# Altium integrated library Linear Technology Operational Amplifiers (LT2000-LT6000).IntLib: 1710 symbols (part 40 of 75)
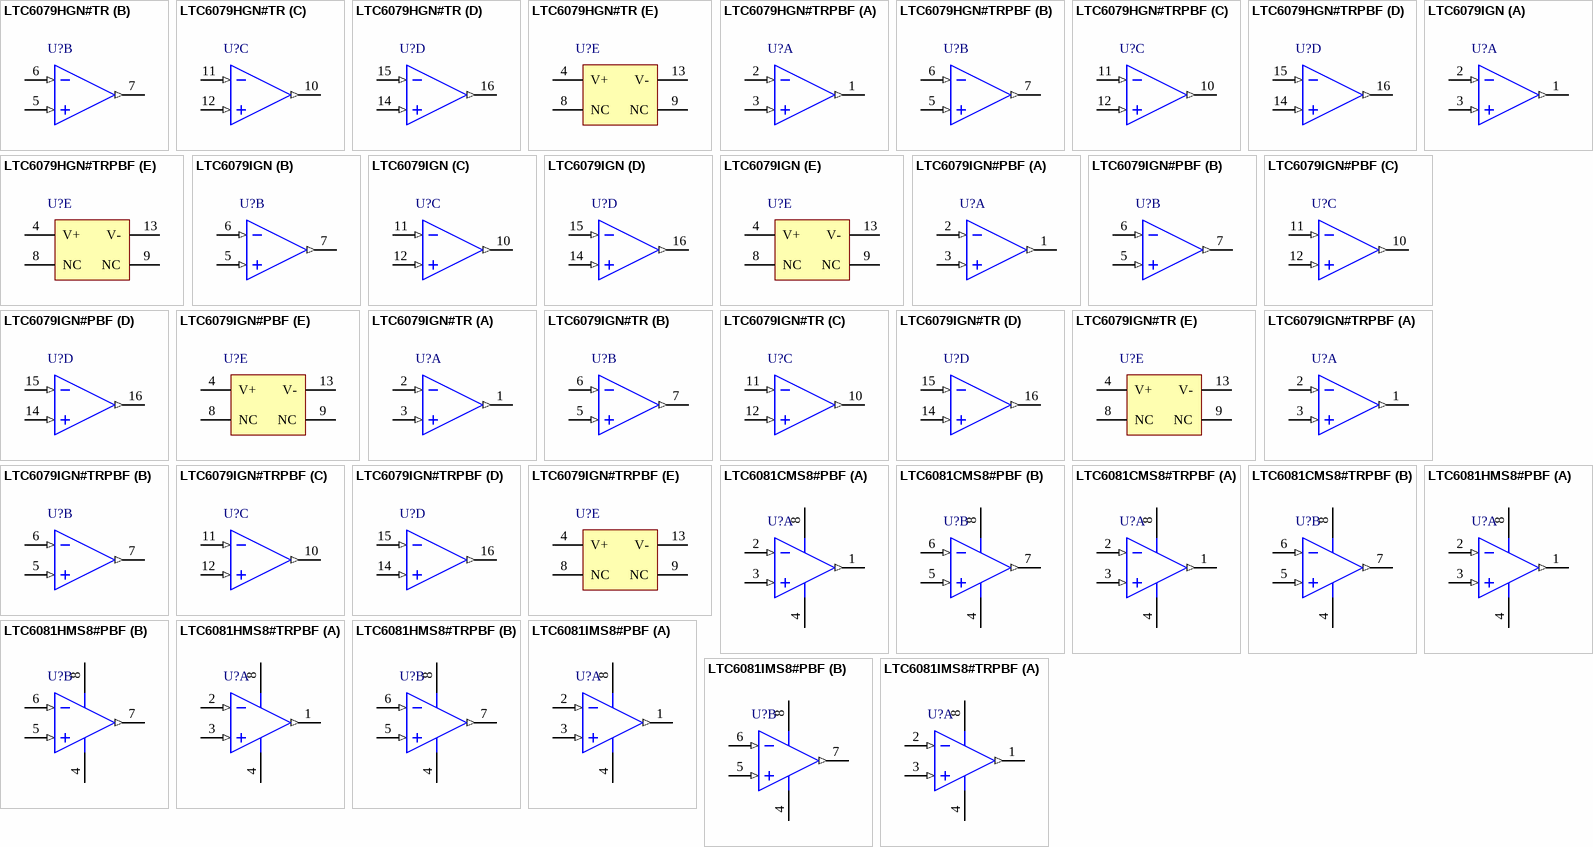
[diagram p119: symbols LTC6079HGN#TR to LTC6081IMS8#TRPBF]

## LTC6079HGN#TRPBF
designator U?
Quad Channel, Micropower, Precision Operational Amplifier, RRIO, 0.75 MHz Typical GBW, 0.05 V/us Typical SR, 2.7 to 5.5 V, 16-Pin SOP (GN-16), High Temperature / Automotive, Pb-Free, Reel; Linear Technology Part Number: LTC6079; Manufacturer: Linear Technology; PartNumber: LTC6079HGN#TRPBF; Channels (#): 4; GBW (MHz) Typical: 0.75; Is (mA) Typical: 0.054; SR (V/us) Typical: 0.05; Vos (mV) Typical: 0.007; Vs Max (V): 5.5; Vs Min (V): 2.7; DatasheetVersion: Rev. A; PackageVersion: Rev B; PackageReference: LT-GN-16; PackageDescription: 16-Lead Plastic SSOP, Body 4.9 x 3.9 mm, Pitch 0.635 mm; Supplier 1: Digi-Key; Supplier Part Number 1: LTC6079HGN#TRPBF-ND; Packing: Reel; RoHS: Pb-Free; Type: VFB; Mounting Technology: Surface Mount; ComponentLink1Description: Manufacturer URL; ComponentLink1URL: http://www.linear.com/; ComponentLink2Description: Datasheet; ComponentLink2URL: http://cds.linear.com/docs/en/datasheet/60789fa.pdf; ComponentLink3Description: Package Specification; ComponentLink3URL: http://cds.linear.com/docs/en/packaging/05081641_B_GN16.pdf
footprint LT-GN-16_N (SOP, 16-Leads, Body 4.9x3.9mm, Pitch 0.635mm, IPC Medium Density)
footprint LT-GN-16_L (SOP, 16-Leads, Body 4.9x3.9mm, Pitch 0.635mm, IPC High Density)
footprint LT-GN-16_M (SOP, 16-Leads, Body 4.9x3.9mm, Pitch 0.635mm, IPC Low Density)
part A pins: 1 OUT A (out), 2 IN- A (in), 3 IN+ A (in)
part B pins: 5 IN+ B (in), 6 IN- B (in), 7 OUT B (out)
part C pins: 10 OUT C (out), 11 IN- C (in), 12 IN+ C (in)
part D pins: 14 IN+ D (in), 15 IN- D (in), 16 OUT D (out)
part E pins: 4 V+ (power), 8 NC, 9 NC, 13 V- (power)

## LTC6079IGN
designator U?
Quad Channel, Micropower, Precision Operational Amplifier, RRIO, 0.75 MHz Typical GBW, 0.05 V/us Typical SR, 2.7 to 5.5 V, 16-Pin SOP (GN-16), Industrial; Linear Technology Part Number: LTC6079; Manufacturer: Linear Technology; PartNumber: LTC6079IGN; Channels (#): 4; GBW (MHz) Typical: 0.75; Is (mA) Typical: 0.054; SR (V/us) Typical: 0.05; Vos (mV) Typical: 0.007; Vs Max (V): 5.5; Vs Min (V): 2.7; DatasheetVersion: Rev. A; PackageVersion: Rev B; PackageReference: LT-GN-16; PackageDescription: 16-Lead Plastic SSOP, Body 4.9 x 3.9 mm, Pitch 0.635 mm; Supplier 1: Digi-Key; Supplier Part Number 1: LTC6079IGN-ND; Supplier 2: Newark; Supplier Part Number 2: 56M9778; Type: VFB; Mounting Technology: Surface Mount; ComponentLink1Description: Manufacturer URL; ComponentLink1URL: http://www.linear.com/; ComponentLink2Description: Datasheet; ComponentLink2URL: http://cds.linear.com/docs/en/datasheet/60789fa.pdf; ComponentLink3Description: Package Specification; ComponentLink3URL: http://cds.linear.com/docs/en/packaging/05081641_B_GN16.pdf
footprint LT-GN-16_N (SOP, 16-Leads, Body 4.9x3.9mm, Pitch 0.635mm, IPC Medium Density)
footprint LT-GN-16_L (SOP, 16-Leads, Body 4.9x3.9mm, Pitch 0.635mm, IPC High Density)
footprint LT-GN-16_M (SOP, 16-Leads, Body 4.9x3.9mm, Pitch 0.635mm, IPC Low Density)
part A pins: 1 OUT A (out), 2 IN- A (in), 3 IN+ A (in)
part B pins: 5 IN+ B (in), 6 IN- B (in), 7 OUT B (out)
part C pins: 10 OUT C (out), 11 IN- C (in), 12 IN+ C (in)
part D pins: 14 IN+ D (in), 15 IN- D (in), 16 OUT D (out)
part E pins: 4 V+ (power), 8 NC, 9 NC, 13 V- (power)

## LTC6079IGN#PBF
designator U?
Quad Channel, Micropower, Precision Operational Amplifier, RRIO, 0.75 MHz Typical GBW, 0.05 V/us Typical SR, 2.7 to 5.5 V, 16-Pin SOP (GN-16), Industrial, Pb-Free; Linear Technology Part Number: LTC6079; Manufacturer: Linear Technology; PartNumber: LTC6079IGN#PBF; Channels (#): 4; GBW (MHz) Typical: 0.75; Is (mA) Typical: 0.054; SR (V/us) Typical: 0.05; Vos (mV) Typical: 0.007; Vs Max (V): 5.5; Vs Min (V): 2.7; DatasheetVersion: Rev. A; PackageVersion: Rev B; PackageReference: LT-GN-16; PackageDescription: 16-Lead Plastic SSOP, Body 4.9 x 3.9 mm, Pitch 0.635 mm; Supplier 1: Digi-Key; Supplier Part Number 1: LTC6079IGN#PBF-ND; Supplier 2: Farnell; Supplier Part Number 2: 1663745; Supplier 3: Newark; Supplier Part Number 3: 56M9779; RoHS: Pb-Free; Type: VFB; Mounting Technology: Surface Mount; ComponentLink1Description: Manufacturer URL; ComponentLink1URL: http://www.linear.com/; ComponentLink2Description: Datasheet; ComponentLink2URL: http://cds.linear.com/docs/en/datasheet/60789fa.pdf; ComponentLink3Description: Package Specification; ComponentLink3URL: http://cds.linear.com/docs/en/packaging/05081641_B_GN16.pdf
footprint LT-GN-16_N (SOP, 16-Leads, Body 4.9x3.9mm, Pitch 0.635mm, IPC Medium Density)
footprint LT-GN-16_L (SOP, 16-Leads, Body 4.9x3.9mm, Pitch 0.635mm, IPC High Density)
footprint LT-GN-16_M (SOP, 16-Leads, Body 4.9x3.9mm, Pitch 0.635mm, IPC Low Density)
part A pins: 1 OUT A (out), 2 IN- A (in), 3 IN+ A (in)
part B pins: 5 IN+ B (in), 6 IN- B (in), 7 OUT B (out)
part C pins: 10 OUT C (out), 11 IN- C (in), 12 IN+ C (in)
part D pins: 14 IN+ D (in), 15 IN- D (in), 16 OUT D (out)
part E pins: 4 V+ (power), 8 NC, 9 NC, 13 V- (power)

## LTC6079IGN#TR
designator U?
Quad Channel, Micropower, Precision Operational Amplifier, RRIO, 0.75 MHz Typical GBW, 0.05 V/us Typical SR, 2.7 to 5.5 V, 16-Pin SOP (GN-16), Industrial, Reel; Linear Technology Part Number: LTC6079; Manufacturer: Linear Technology; PartNumber: LTC6079IGN#TR; Channels (#): 4; GBW (MHz) Typical: 0.75; Is (mA) Typical: 0.054; SR (V/us) Typical: 0.05; Vos (mV) Typical: 0.007; Vs Max (V): 5.5; Vs Min (V): 2.7; DatasheetVersion: Rev. A; PackageVersion: Rev B; PackageReference: LT-GN-16; PackageDescription: 16-Lead Plastic SSOP, Body 4.9 x 3.9 mm, Pitch 0.635 mm; Supplier 1: Digi-Key; Supplier Part Number 1: LTC6079IGN#TR-ND; Supplier 2: Newark; Supplier Part Number 2: 56M9780; Packing: Reel; Type: VFB; Mounting Technology: Surface Mount; ComponentLink1Description: Manufacturer URL; ComponentLink1URL: http://www.linear.com/; ComponentLink2Description: Datasheet; ComponentLink2URL: http://cds.linear.com/docs/en/datasheet/60789fa.pdf; ComponentLink3Description: Package Specification; ComponentLink3URL: http://cds.linear.com/docs/en/packaging/05081641_B_GN16.pdf
footprint LT-GN-16_N (SOP, 16-Leads, Body 4.9x3.9mm, Pitch 0.635mm, IPC Medium Density)
footprint LT-GN-16_L (SOP, 16-Leads, Body 4.9x3.9mm, Pitch 0.635mm, IPC High Density)
footprint LT-GN-16_M (SOP, 16-Leads, Body 4.9x3.9mm, Pitch 0.635mm, IPC Low Density)
part A pins: 1 OUT A (out), 2 IN- A (in), 3 IN+ A (in)
part B pins: 5 IN+ B (in), 6 IN- B (in), 7 OUT B (out)
part C pins: 10 OUT C (out), 11 IN- C (in), 12 IN+ C (in)
part D pins: 14 IN+ D (in), 15 IN- D (in), 16 OUT D (out)
part E pins: 4 V+ (power), 8 NC, 9 NC, 13 V- (power)

## LTC6079IGN#TRPBF
designator U?
Quad Channel, Micropower, Precision Operational Amplifier, RRIO, 0.75 MHz Typical GBW, 0.05 V/us Typical SR, 2.7 to 5.5 V, 16-Pin SOP (GN-16), Industrial, Pb-Free, Reel; Linear Technology Part Number: LTC6079; Manufacturer: Linear Technology; PartNumber: LTC6079IGN#TRPBF; Channels (#): 4; GBW (MHz) Typical: 0.75; Is (mA) Typical: 0.054; SR (V/us) Typical: 0.05; Vos (mV) Typical: 0.007; Vs Max (V): 5.5; Vs Min (V): 2.7; DatasheetVersion: Rev. A; PackageVersion: Rev B; PackageReference: LT-GN-16; PackageDescription: 16-Lead Plastic SSOP, Body 4.9 x 3.9 mm, Pitch 0.635 mm; Supplier 1: Digi-Key; Supplier Part Number 1: LTC6079IGN#TRPBF-ND; Supplier 2: Newark; Supplier Part Number 2: 56M9781; Packing: Reel; RoHS: Pb-Free; Type: VFB; Mounting Technology: Surface Mount; ComponentLink1Description: Manufacturer URL; ComponentLink1URL: http://www.linear.com/; ComponentLink2Description: Datasheet; ComponentLink2URL: http://cds.linear.com/docs/en/datasheet/60789fa.pdf; ComponentLink3Description: Package Specification; ComponentLink3URL: http://cds.linear.com/docs/en/packaging/05081641_B_GN16.pdf
footprint LT-GN-16_N (SOP, 16-Leads, Body 4.9x3.9mm, Pitch 0.635mm, IPC Medium Density)
footprint LT-GN-16_L (SOP, 16-Leads, Body 4.9x3.9mm, Pitch 0.635mm, IPC High Density)
footprint LT-GN-16_M (SOP, 16-Leads, Body 4.9x3.9mm, Pitch 0.635mm, IPC Low Density)
part A pins: 1 OUT A (out), 2 IN- A (in), 3 IN+ A (in)
part B pins: 5 IN+ B (in), 6 IN- B (in), 7 OUT B (out)
part C pins: 10 OUT C (out), 11 IN- C (in), 12 IN+ C (in)
part D pins: 14 IN+ D (in), 15 IN- D (in), 16 OUT D (out)
part E pins: 4 V+ (power), 8 NC, 9 NC, 13 V- (power)

## LTC6081CMS8#PBF
designator U?
Dual Channel, Precision CMOS Operational Amplifier, RRIO, 3.6 MHz Typical GBW, 1 V/us Typical SR, 2.7 to 5.5 V, 8-Pin SOP (MS8-8), Commercial, Pb-Free; Linear Technology Part Number: LTC6081; Manufacturer: Linear Technology; PartNumber: LTC6081CMS8#PBF; Channels (#): 2; GBW (MHz) Typical: 3.6; Is (mA) Typical: 0.33; SR (V/us) Typical: 1; Vos (mV) Typical: 0.07; Vs Max (V): 5.5; Vs Min (V): 2.7; DatasheetVersion: Rev. C; PackageVersion: Rev G; PackageReference: LT-MS8-8; PackageDescription: 8-Lead Plastic Small Outline, Body 3.9 x 4.9 mm, Pitch 1.27 mm; Supplier 1: Digi-Key; Supplier Part Number 1: LTC6081CMS8#PBF-ND; Supplier 2: Farnell; Supplier Part Number 2: 1432784; Supplier 3: Newark; Supplier Part Number 3: 56M9784; RoHS: Pb-Free; Type: VFB; Mounting Technology: Surface Mount; ComponentLink1Description: Manufacturer URL; ComponentLink1URL: http://www.linear.com/; ComponentLink2Description: Datasheet; ComponentLink2URL: http://cds.linear.com/docs/en/datasheet/60812fc.pdf; ComponentLink3Description: Package Specification; ComponentLink3URL: http://cds.linear.com/docs/en/packaging/05081610_G_SO8.pdf
footprint LT-MS8-8_N (SOP, 8-Leads, Body 3x3mm, Pitch 0.65mm, IPC Medium Density)
footprint LT-MS8-8_L (SOP, 8-Leads, Body 3x3mm, Pitch 0.65mm, IPC High Density)
footprint LT-MS8-8_M (SOP, 8-Leads, Body 3x3mm, Pitch 0.65mm, IPC Low Density)
pins on every part: 4 V- (power), 8 V+ (power)
part A pins: 1 OUTA (out), 2 -INA (in), 3 +INA (in)
part B pins: 5 +INB (in), 6 -INB (in), 7 OUTB (out)

## LTC6081CMS8#TRPBF
designator U?
Dual Channel, Precision CMOS Operational Amplifier, RRIO, 3.6 MHz Typical GBW, 1 V/us Typical SR, 2.7 to 5.5 V, 8-Pin SOP (MS8-8), Commercial, Pb-Free, Reel; Linear Technology Part Number: LTC6081; Manufacturer: Linear Technology; PartNumber: LTC6081CMS8#TRPBF; Channels (#): 2; GBW (MHz) Typical: 3.6; Is (mA) Typical: 0.33; SR (V/us) Typical: 1; Vos (mV) Typical: 0.07; Vs Max (V): 5.5; Vs Min (V): 2.7; DatasheetVersion: Rev. C; PackageVersion: Rev G; PackageReference: LT-MS8-8; PackageDescription: 8-Lead Plastic Small Outline, Body 3.9 x 4.9 mm, Pitch 1.27 mm; Supplier 1: Digi-Key; Supplier Part Number 1: LTC6081CMS8#TRPBF-ND; Packing: Reel; RoHS: Pb-Free; Type: VFB; Mounting Technology: Surface Mount; ComponentLink1Description: Manufacturer URL; ComponentLink1URL: http://www.linear.com/; ComponentLink2Description: Datasheet; ComponentLink2URL: http://cds.linear.com/docs/en/datasheet/60812fc.pdf; ComponentLink3Description: Package Specification; ComponentLink3URL: http://cds.linear.com/docs/en/packaging/05081610_G_SO8.pdf
footprint LT-MS8-8_N (SOP, 8-Leads, Body 3x3mm, Pitch 0.65mm, IPC Medium Density)
footprint LT-MS8-8_L (SOP, 8-Leads, Body 3x3mm, Pitch 0.65mm, IPC High Density)
footprint LT-MS8-8_M (SOP, 8-Leads, Body 3x3mm, Pitch 0.65mm, IPC Low Density)
pins on every part: 4 V- (power), 8 V+ (power)
part A pins: 1 OUTA (out), 2 -INA (in), 3 +INA (in)
part B pins: 5 +INB (in), 6 -INB (in), 7 OUTB (out)

## LTC6081HMS8#PBF
designator U?
Dual Channel, Precision CMOS Operational Amplifier, RRIO, 3.6 MHz Typical GBW, 1 V/us Typical SR, 2.7 to 5.5 V, 8-Pin SOP (MS8-8), High Temperature / Automotive, Pb-Free; Linear Technology Part Number: LTC6081; Manufacturer: Linear Technology; PartNumber: LTC6081HMS8#PBF; Channels (#): 2; GBW (MHz) Typical: 3.6; Is (mA) Typical: 0.33; SR (V/us) Typical: 1; Vos (mV) Typical: 0.07; Vs Max (V): 5.5; Vs Min (V): 2.7; DatasheetVersion: Rev. C; PackageVersion: Rev G; PackageReference: LT-MS8-8; PackageDescription: 8-Lead Plastic Small Outline, Body 3.9 x 4.9 mm, Pitch 1.27 mm; Supplier 1: Digi-Key; Supplier Part Number 1: LTC6081HMS8#PBF-ND; Supplier 2: Newark; Supplier Part Number 2: 56M9786; RoHS: Pb-Free; Type: VFB; Mounting Technology: Surface Mount; ComponentLink1Description: Manufacturer URL; ComponentLink1URL: http://www.linear.com/; ComponentLink2Description: Datasheet; ComponentLink2URL: http://cds.linear.com/docs/en/datasheet/60812fc.pdf; ComponentLink3Description: Package Specification; ComponentLink3URL: http://cds.linear.com/docs/en/packaging/05081610_G_SO8.pdf
footprint LT-MS8-8_N (SOP, 8-Leads, Body 3x3mm, Pitch 0.65mm, IPC Medium Density)
footprint LT-MS8-8_L (SOP, 8-Leads, Body 3x3mm, Pitch 0.65mm, IPC High Density)
footprint LT-MS8-8_M (SOP, 8-Leads, Body 3x3mm, Pitch 0.65mm, IPC Low Density)
pins on every part: 4 V- (power), 8 V+ (power)
part A pins: 1 OUTA (out), 2 -INA (in), 3 +INA (in)
part B pins: 5 +INB (in), 6 -INB (in), 7 OUTB (out)

## LTC6081HMS8#TRPBF
designator U?
Dual Channel, Precision CMOS Operational Amplifier, RRIO, 3.6 MHz Typical GBW, 1 V/us Typical SR, 2.7 to 5.5 V, 8-Pin SOP (MS8-8), High Temperature / Automotive, Pb-Free, Reel; Linear Technology Part Number: LTC6081; Manufacturer: Linear Technology; PartNumber: LTC6081HMS8#TRPBF; Channels (#): 2; GBW (MHz) Typical: 3.6; Is (mA) Typical: 0.33; SR (V/us) Typical: 1; Vos (mV) Typical: 0.07; Vs Max (V): 5.5; Vs Min (V): 2.7; DatasheetVersion: Rev. C; PackageVersion: Rev G; PackageReference: LT-MS8-8; PackageDescription: 8-Lead Plastic Small Outline, Body 3.9 x 4.9 mm, Pitch 1.27 mm; Supplier 1: Digi-Key; Supplier Part Number 1: LTC6081HMS8#TRPBF-ND; Supplier 2: Newark; Supplier Part Number 2: 56M9787; Packing: Reel; RoHS: Pb-Free; Type: VFB; Mounting Technology: Surface Mount; ComponentLink1Description: Manufacturer URL; ComponentLink1URL: http://www.linear.com/; ComponentLink2Description: Datasheet; ComponentLink2URL: http://cds.linear.com/docs/en/datasheet/60812fc.pdf; ComponentLink3Description: Package Specification; ComponentLink3URL: http://cds.linear.com/docs/en/packaging/05081610_G_SO8.pdf
footprint LT-MS8-8_N (SOP, 8-Leads, Body 3x3mm, Pitch 0.65mm, IPC Medium Density)
footprint LT-MS8-8_L (SOP, 8-Leads, Body 3x3mm, Pitch 0.65mm, IPC High Density)
footprint LT-MS8-8_M (SOP, 8-Leads, Body 3x3mm, Pitch 0.65mm, IPC Low Density)
pins on every part: 4 V- (power), 8 V+ (power)
part A pins: 1 OUTA (out), 2 -INA (in), 3 +INA (in)
part B pins: 5 +INB (in), 6 -INB (in), 7 OUTB (out)

## LTC6081IMS8#PBF
designator U?
Dual Channel, Precision CMOS Operational Amplifier, RRIO, 3.6 MHz Typical GBW, 1 V/us Typical SR, 2.7 to 5.5 V, 8-Pin SOP (MS8-8), Industrial, Pb-Free; Linear Technology Part Number: LTC6081; Manufacturer: Linear Technology; PartNumber: LTC6081IMS8#PBF; Channels (#): 2; GBW (MHz) Typical: 3.6; Is (mA) Typical: 0.33; SR (V/us) Typical: 1; Vos (mV) Typical: 0.07; Vs Max (V): 5.5; Vs Min (V): 2.7; DatasheetVersion: Rev. C; PackageVersion: Rev G; PackageReference: LT-MS8-8; PackageDescription: 8-Lead Plastic Small Outline, Body 3.9 x 4.9 mm, Pitch 1.27 mm; Supplier 1: Digi-Key; Supplier Part Number 1: LTC6081IMS8#PBF-ND; Supplier 2: Farnell; Supplier Part Number 2: 1432122; Supplier 3: Newark; Supplier Part Number 3: 56M9790; RoHS: Pb-Free; Type: VFB; Mounting Technology: Surface Mount; ComponentLink1Description: Manufacturer URL; ComponentLink1URL: http://www.linear.com/; ComponentLink2Description: Datasheet; ComponentLink2URL: http://cds.linear.com/docs/en/datasheet/60812fc.pdf; ComponentLink3Description: Package Specification; ComponentLink3URL: http://cds.linear.com/docs/en/packaging/05081610_G_SO8.pdf
footprint LT-MS8-8_N (SOP, 8-Leads, Body 3x3mm, Pitch 0.65mm, IPC Medium Density)
footprint LT-MS8-8_L (SOP, 8-Leads, Body 3x3mm, Pitch 0.65mm, IPC High Density)
footprint LT-MS8-8_M (SOP, 8-Leads, Body 3x3mm, Pitch 0.65mm, IPC Low Density)
pins on every part: 4 V- (power), 8 V+ (power)
part A pins: 1 OUTA (out), 2 -INA (in), 3 +INA (in)
part B pins: 5 +INB (in), 6 -INB (in), 7 OUTB (out)

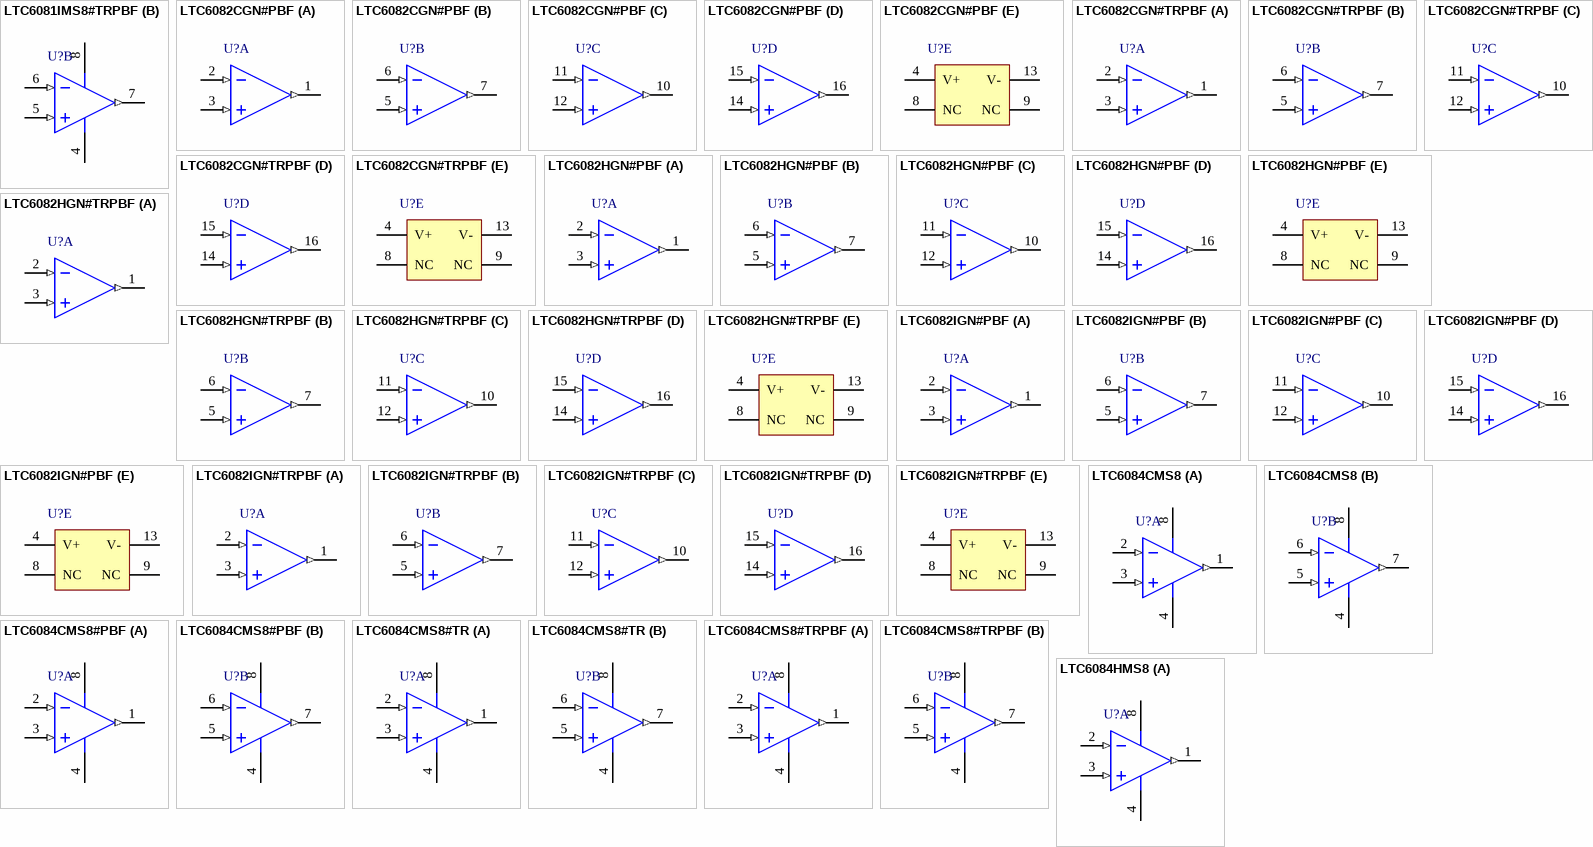
[diagram p53: symbols LTC6081IMS8#TRPBF to LTC6084HMS8]

## LTC6081IMS8#TRPBF
designator U?
Dual Channel, Precision CMOS Operational Amplifier, RRIO, 3.6 MHz Typical GBW, 1 V/us Typical SR, 2.7 to 5.5 V, 8-Pin SOP (MS8-8), Industrial, Pb-Free, Reel; Linear Technology Part Number: LTC6081; Manufacturer: Linear Technology; PartNumber: LTC6081IMS8#TRPBF; Channels (#): 2; GBW (MHz) Typical: 3.6; Is (mA) Typical: 0.33; SR (V/us) Typical: 1; Vos (mV) Typical: 0.07; Vs Max (V): 5.5; Vs Min (V): 2.7; DatasheetVersion: Rev. C; PackageVersion: Rev G; PackageReference: LT-MS8-8; PackageDescription: 8-Lead Plastic Small Outline, Body 3.9 x 4.9 mm, Pitch 1.27 mm; Supplier 1: Digi-Key; Supplier Part Number 1: LTC6081IMS8#TRPBF-ND; Packing: Reel; RoHS: Pb-Free; Type: VFB; Mounting Technology: Surface Mount; ComponentLink1Description: Manufacturer URL; ComponentLink1URL: http://www.linear.com/; ComponentLink2Description: Datasheet; ComponentLink2URL: http://cds.linear.com/docs/en/datasheet/60812fc.pdf; ComponentLink3Description: Package Specification; ComponentLink3URL: http://cds.linear.com/docs/en/packaging/05081610_G_SO8.pdf
footprint LT-MS8-8_N (SOP, 8-Leads, Body 3x3mm, Pitch 0.65mm, IPC Medium Density)
footprint LT-MS8-8_L (SOP, 8-Leads, Body 3x3mm, Pitch 0.65mm, IPC High Density)
footprint LT-MS8-8_M (SOP, 8-Leads, Body 3x3mm, Pitch 0.65mm, IPC Low Density)
pins on every part: 4 V- (power), 8 V+ (power)
part A pins: 1 OUTA (out), 2 -INA (in), 3 +INA (in)
part B pins: 5 +INB (in), 6 -INB (in), 7 OUTB (out)

## LTC6082CGN#PBF
designator U?
Quad Channel, Precision CMOS Operational Amplifier, RRIO, 3.6 MHz Typical GBW, 1 V/us Typical SR, 2.7 to 5.5 V, 16-Pin SOP (GN-16), Commercial, Pb-Free; Linear Technology Part Number: LTC6082; Manufacturer: Linear Technology; PartNumber: LTC6082CGN#PBF; Channels (#): 4; GBW (MHz) Typical: 3.6; Is (mA) Typical: 0.33; SR (V/us) Typical: 1; Vos (mV) Typical: 0.07; Vs Max (V): 5.5; Vs Min (V): 2.7; DatasheetVersion: Rev. C; PackageVersion: Rev B; PackageReference: LT-GN-16; PackageDescription: 16-Lead Plastic SSOP, Body 4.9 x 3.9 mm, Pitch 0.635 mm; Supplier 1: Digi-Key; Supplier Part Number 1: LTC6082CGN#PBF-ND; Supplier 2: Farnell; Supplier Part Number 2: 1432788; RoHS: Pb-Free; Type: VFB; Mounting Technology: Surface Mount; ComponentLink1Description: Manufacturer URL; ComponentLink1URL: http://www.linear.com/; ComponentLink2Description: Datasheet; ComponentLink2URL: http://cds.linear.com/docs/en/datasheet/60812fc.pdf; ComponentLink3Description: Package Specification; ComponentLink3URL: http://cds.linear.com/docs/en/packaging/05081641_B_GN16.pdf
footprint LT-GN-16_N (SOP, 16-Leads, Body 4.9x3.9mm, Pitch 0.635mm, IPC Medium Density)
footprint LT-GN-16_L (SOP, 16-Leads, Body 4.9x3.9mm, Pitch 0.635mm, IPC High Density)
footprint LT-GN-16_M (SOP, 16-Leads, Body 4.9x3.9mm, Pitch 0.635mm, IPC Low Density)
part A pins: 1 OUT A (out), 2 IN- A (in), 3 IN+ A (in)
part B pins: 5 IN+ B (in), 6 IN- B (in), 7 OUT B (out)
part C pins: 10 OUT C (out), 11 IN- C (in), 12 IN+ C (in)
part D pins: 14 IN+ D (in), 15 IN- D (in), 16 OUT D (out)
part E pins: 4 V+ (power), 8 NC, 9 NC, 13 V- (power)

## LTC6082CGN#TRPBF
designator U?
Quad Channel, Precision CMOS Operational Amplifier, RRIO, 3.6 MHz Typical GBW, 1 V/us Typical SR, 2.7 to 5.5 V, 16-Pin SOP (GN-16), Commercial, Pb-Free, Reel; Linear Technology Part Number: LTC6082; Manufacturer: Linear Technology; PartNumber: LTC6082CGN#TRPBF; Channels (#): 4; GBW (MHz) Typical: 3.6; Is (mA) Typical: 0.33; SR (V/us) Typical: 1; Vos (mV) Typical: 0.07; Vs Max (V): 5.5; Vs Min (V): 2.7; DatasheetVersion: Rev. C; PackageVersion: Rev B; PackageReference: LT-GN-16; PackageDescription: 16-Lead Plastic SSOP, Body 4.9 x 3.9 mm, Pitch 0.635 mm; Supplier 1: Digi-Key; Supplier Part Number 1: LTC6082CGN#TRPBF-ND; Packing: Reel; RoHS: Pb-Free; Type: VFB; Mounting Technology: Surface Mount; ComponentLink1Description: Manufacturer URL; ComponentLink1URL: http://www.linear.com/; ComponentLink2Description: Datasheet; ComponentLink2URL: http://cds.linear.com/docs/en/datasheet/60812fc.pdf; ComponentLink3Description: Package Specification; ComponentLink3URL: http://cds.linear.com/docs/en/packaging/05081641_B_GN16.pdf
footprint LT-GN-16_N (SOP, 16-Leads, Body 4.9x3.9mm, Pitch 0.635mm, IPC Medium Density)
footprint LT-GN-16_L (SOP, 16-Leads, Body 4.9x3.9mm, Pitch 0.635mm, IPC High Density)
footprint LT-GN-16_M (SOP, 16-Leads, Body 4.9x3.9mm, Pitch 0.635mm, IPC Low Density)
part A pins: 1 OUT A (out), 2 IN- A (in), 3 IN+ A (in)
part B pins: 5 IN+ B (in), 6 IN- B (in), 7 OUT B (out)
part C pins: 10 OUT C (out), 11 IN- C (in), 12 IN+ C (in)
part D pins: 14 IN+ D (in), 15 IN- D (in), 16 OUT D (out)
part E pins: 4 V+ (power), 8 NC, 9 NC, 13 V- (power)

## LTC6082HGN#PBF
designator U?
Quad Channel, Precision CMOS Operational Amplifier, RRIO, 3.6 MHz Typical GBW, 1 V/us Typical SR, 2.7 to 5.5 V, 16-Pin SOP (GN-16), High Temperature / Automotive, Pb-Free; Linear Technology Part Number: LTC6082; Manufacturer: Linear Technology; PartNumber: LTC6082HGN#PBF; Channels (#): 4; GBW (MHz) Typical: 3.6; Is (mA) Typical: 0.33; SR (V/us) Typical: 1; Vos (mV) Typical: 0.07; Vs Max (V): 5.5; Vs Min (V): 2.7; DatasheetVersion: Rev. C; PackageVersion: Rev B; PackageReference: LT-GN-16; PackageDescription: 16-Lead Plastic SSOP, Body 4.9 x 3.9 mm, Pitch 0.635 mm; Supplier 1: Digi-Key; Supplier Part Number 1: LTC6082HGN#PBF-ND; RoHS: Pb-Free; Type: VFB; Mounting Technology: Surface Mount; ComponentLink1Description: Manufacturer URL; ComponentLink1URL: http://www.linear.com/; ComponentLink2Description: Datasheet; ComponentLink2URL: http://cds.linear.com/docs/en/datasheet/60812fc.pdf; ComponentLink3Description: Package Specification; ComponentLink3URL: http://cds.linear.com/docs/en/packaging/05081641_B_GN16.pdf
footprint LT-GN-16_N (SOP, 16-Leads, Body 4.9x3.9mm, Pitch 0.635mm, IPC Medium Density)
footprint LT-GN-16_L (SOP, 16-Leads, Body 4.9x3.9mm, Pitch 0.635mm, IPC High Density)
footprint LT-GN-16_M (SOP, 16-Leads, Body 4.9x3.9mm, Pitch 0.635mm, IPC Low Density)
part A pins: 1 OUT A (out), 2 IN- A (in), 3 IN+ A (in)
part B pins: 5 IN+ B (in), 6 IN- B (in), 7 OUT B (out)
part C pins: 10 OUT C (out), 11 IN- C (in), 12 IN+ C (in)
part D pins: 14 IN+ D (in), 15 IN- D (in), 16 OUT D (out)
part E pins: 4 V+ (power), 8 NC, 9 NC, 13 V- (power)

## LTC6082HGN#TRPBF
designator U?
Quad Channel, Precision CMOS Operational Amplifier, RRIO, 3.6 MHz Typical GBW, 1 V/us Typical SR, 2.7 to 5.5 V, 16-Pin SOP (GN-16), High Temperature / Automotive, Pb-Free, Reel; Linear Technology Part Number: LTC6082; Manufacturer: Linear Technology; PartNumber: LTC6082HGN#TRPBF; Channels (#): 4; GBW (MHz) Typical: 3.6; Is (mA) Typical: 0.33; SR (V/us) Typical: 1; Vos (mV) Typical: 0.07; Vs Max (V): 5.5; Vs Min (V): 2.7; DatasheetVersion: Rev. C; PackageVersion: Rev B; PackageReference: LT-GN-16; PackageDescription: 16-Lead Plastic SSOP, Body 4.9 x 3.9 mm, Pitch 0.635 mm; Supplier 1: Digi-Key; Supplier Part Number 1: LTC6082HGN#TRPBF-ND; Packing: Reel; RoHS: Pb-Free; Type: VFB; Mounting Technology: Surface Mount; ComponentLink1Description: Manufacturer URL; ComponentLink1URL: http://www.linear.com/; ComponentLink2Description: Datasheet; ComponentLink2URL: http://cds.linear.com/docs/en/datasheet/60812fc.pdf; ComponentLink3Description: Package Specification; ComponentLink3URL: http://cds.linear.com/docs/en/packaging/05081641_B_GN16.pdf
footprint LT-GN-16_N (SOP, 16-Leads, Body 4.9x3.9mm, Pitch 0.635mm, IPC Medium Density)
footprint LT-GN-16_L (SOP, 16-Leads, Body 4.9x3.9mm, Pitch 0.635mm, IPC High Density)
footprint LT-GN-16_M (SOP, 16-Leads, Body 4.9x3.9mm, Pitch 0.635mm, IPC Low Density)
part A pins: 1 OUT A (out), 2 IN- A (in), 3 IN+ A (in)
part B pins: 5 IN+ B (in), 6 IN- B (in), 7 OUT B (out)
part C pins: 10 OUT C (out), 11 IN- C (in), 12 IN+ C (in)
part D pins: 14 IN+ D (in), 15 IN- D (in), 16 OUT D (out)
part E pins: 4 V+ (power), 8 NC, 9 NC, 13 V- (power)

## LTC6082IGN#PBF
designator U?
Quad Channel, Precision CMOS Operational Amplifier, RRIO, 3.6 MHz Typical GBW, 1 V/us Typical SR, 2.7 to 5.5 V, 16-Pin SOP (GN-16), Industrial, Pb-Free; Linear Technology Part Number: LTC6082; Manufacturer: Linear Technology; PartNumber: LTC6082IGN#PBF; Channels (#): 4; GBW (MHz) Typical: 3.6; Is (mA) Typical: 0.33; SR (V/us) Typical: 1; Vos (mV) Typical: 0.07; Vs Max (V): 5.5; Vs Min (V): 2.7; DatasheetVersion: Rev. C; PackageVersion: Rev B; PackageReference: LT-GN-16; PackageDescription: 16-Lead Plastic SSOP, Body 4.9 x 3.9 mm, Pitch 0.635 mm; Supplier 1: Digi-Key; Supplier Part Number 1: LTC6082IGN#PBF-ND; Supplier 2: Farnell; Supplier Part Number 2: 1432791; Supplier 3: Newark; Supplier Part Number 3: 56M9800; RoHS: Pb-Free; Type: VFB; Mounting Technology: Surface Mount; ComponentLink1Description: Manufacturer URL; ComponentLink1URL: http://www.linear.com/; ComponentLink2Description: Datasheet; ComponentLink2URL: http://cds.linear.com/docs/en/datasheet/60812fc.pdf; ComponentLink3Description: Package Specification; ComponentLink3URL: http://cds.linear.com/docs/en/packaging/05081641_B_GN16.pdf
footprint LT-GN-16_N (SOP, 16-Leads, Body 4.9x3.9mm, Pitch 0.635mm, IPC Medium Density)
footprint LT-GN-16_L (SOP, 16-Leads, Body 4.9x3.9mm, Pitch 0.635mm, IPC High Density)
footprint LT-GN-16_M (SOP, 16-Leads, Body 4.9x3.9mm, Pitch 0.635mm, IPC Low Density)
part A pins: 1 OUT A (out), 2 IN- A (in), 3 IN+ A (in)
part B pins: 5 IN+ B (in), 6 IN- B (in), 7 OUT B (out)
part C pins: 10 OUT C (out), 11 IN- C (in), 12 IN+ C (in)
part D pins: 14 IN+ D (in), 15 IN- D (in), 16 OUT D (out)
part E pins: 4 V+ (power), 8 NC, 9 NC, 13 V- (power)

## LTC6082IGN#TRPBF
designator U?
Quad Channel, Precision CMOS Operational Amplifier, RRIO, 3.6 MHz Typical GBW, 1 V/us Typical SR, 2.7 to 5.5 V, 16-Pin SOP (GN-16), Industrial, Pb-Free, Reel; Linear Technology Part Number: LTC6082; Manufacturer: Linear Technology; PartNumber: LTC6082IGN#TRPBF; Channels (#): 4; GBW (MHz) Typical: 3.6; Is (mA) Typical: 0.33; SR (V/us) Typical: 1; Vos (mV) Typical: 0.07; Vs Max (V): 5.5; Vs Min (V): 2.7; DatasheetVersion: Rev. C; PackageVersion: Rev B; PackageReference: LT-GN-16; PackageDescription: 16-Lead Plastic SSOP, Body 4.9 x 3.9 mm, Pitch 0.635 mm; Supplier 1: Digi-Key; Supplier Part Number 1: LTC6082IGN#TRPBF-ND; Packing: Reel; RoHS: Pb-Free; Type: VFB; Mounting Technology: Surface Mount; ComponentLink1Description: Manufacturer URL; ComponentLink1URL: http://www.linear.com/; ComponentLink2Description: Datasheet; ComponentLink2URL: http://cds.linear.com/docs/en/datasheet/60812fc.pdf; ComponentLink3Description: Package Specification; ComponentLink3URL: http://cds.linear.com/docs/en/packaging/05081641_B_GN16.pdf
footprint LT-GN-16_N (SOP, 16-Leads, Body 4.9x3.9mm, Pitch 0.635mm, IPC Medium Density)
footprint LT-GN-16_L (SOP, 16-Leads, Body 4.9x3.9mm, Pitch 0.635mm, IPC High Density)
footprint LT-GN-16_M (SOP, 16-Leads, Body 4.9x3.9mm, Pitch 0.635mm, IPC Low Density)
part A pins: 1 OUT A (out), 2 IN- A (in), 3 IN+ A (in)
part B pins: 5 IN+ B (in), 6 IN- B (in), 7 OUT B (out)
part C pins: 10 OUT C (out), 11 IN- C (in), 12 IN+ C (in)
part D pins: 14 IN+ D (in), 15 IN- D (in), 16 OUT D (out)
part E pins: 4 V+ (power), 8 NC, 9 NC, 13 V- (power)

## LTC6084CMS8
designator U?
Dual Channel, Rail-to-Rail, CMOS Operational Amplifier, 1.5 MHz Typical GBW, 0.5 V/us Typical SR, 2.5 to 5.5 V, 8-Pin SOP (MS8), Commercial; Linear Technology Part Number: LTC6084; Manufacturer: Linear Technology; PartNumber: LTC6084CMS8; Channels (#): 2; GBW (MHz) Typical: 1.5; Is (mA) Typical: 0.11; SR (V/us) Typical: 0.5; Vos (mV) Typical: 0.3; Vs Max (V): 5.5; Vs Min (V): 2.5; DatasheetVersion: Rev. A; PackageReference: LT-MS8; PackageDescription: 8-Pin Plastic MSOP, Body 3 x 3 mm, Pitch 0.65 mm; Type: VFB; Mounting Technology: Surface Mount; ComponentLink1Description: Manufacturer URL; ComponentLink1URL: http://www.linear.com/; ComponentLink2Description: Datasheet; ComponentLink2URL: http://cds.linear.com/docs/en/datasheet/60845fa.pdf; ComponentLink3Description: Package Specification; ComponentLink3URL: http://cds.linear.com/docs/en/packaging/MSOP_8_05-08-1660.pdf
footprint LT-MS8_N (SOP, 8-Leads, Body 3x3mm, Pitch 0.65mm, IPC Medium Density)
footprint LT-MS8_L (SOP, 8-Leads, Body 3x3mm, Pitch 0.65mm, IPC High Density)
footprint LT-MS8_M (SOP, 8-Leads, Body 3x3mm, Pitch 0.65mm, IPC Low Density)
pins on every part: 4 V- (power) "Negative Supply.", 8 V+ (power) "Positive Supply."
part A pins: 1 OUTA (out) "Amplifi er Output.", 2 -INA (in) "Inverting Input.", 3 +INA (in) "Noninverting Input."
part B pins: 5 +INB (in) "Noninverting Input.", 6 -INB (in) "Inverting Input.", 7 OUTB (out) "Amplifi er Output."

## LTC6084CMS8#PBF
designator U?
Dual Channel, Rail-to-Rail, CMOS Operational Amplifier, 1.5 MHz Typical GBW, 0.5 V/us Typical SR, 2.5 to 5.5 V, 8-Pin SOP (MS8), Commercial, Pb-Free; Linear Technology Part Number: LTC6084; Manufacturer: Linear Technology; PartNumber: LTC6084CMS8#PBF; Channels (#): 2; GBW (MHz) Typical: 1.5; Is (mA) Typical: 0.11; SR (V/us) Typical: 0.5; Vos (mV) Typical: 0.3; Vs Max (V): 5.5; Vs Min (V): 2.5; DatasheetVersion: Rev. A; PackageReference: LT-MS8; PackageDescription: 8-Pin Plastic MSOP, Body 3 x 3 mm, Pitch 0.65 mm; Supplier 1: Digi-Key; Supplier Part Number 1: LTC6084CMS8#PBF-ND; Supplier 2: Farnell; Supplier Part Number 2: 2294742; Supplier 3: Newark; Supplier Part Number 3: 15N5436; RoHS: Pb-Free; Type: VFB; Mounting Technology: Surface Mount; ComponentLink1Description: Manufacturer URL; ComponentLink1URL: http://www.linear.com/; ComponentLink2Description: Datasheet; ComponentLink2URL: http://cds.linear.com/docs/en/datasheet/60845fa.pdf; ComponentLink3Description: Package Specification; ComponentLink3URL: http://cds.linear.com/docs/en/packaging/MSOP_8_05-08-1660.pdf
footprint LT-MS8_N (SOP, 8-Leads, Body 3x3mm, Pitch 0.65mm, IPC Medium Density)
footprint LT-MS8_L (SOP, 8-Leads, Body 3x3mm, Pitch 0.65mm, IPC High Density)
footprint LT-MS8_M (SOP, 8-Leads, Body 3x3mm, Pitch 0.65mm, IPC Low Density)
pins on every part: 4 V- (power) "Negative Supply.", 8 V+ (power) "Positive Supply."
part A pins: 1 OUTA (out) "Amplifi er Output.", 2 -INA (in) "Inverting Input.", 3 +INA (in) "Noninverting Input."
part B pins: 5 +INB (in) "Noninverting Input.", 6 -INB (in) "Inverting Input.", 7 OUTB (out) "Amplifi er Output."

## LTC6084CMS8#TR
designator U?
Dual Channel, Rail-to-Rail, CMOS Operational Amplifier, 1.5 MHz Typical GBW, 0.5 V/us Typical SR, 2.5 to 5.5 V, 8-Pin SOP (MS8), Commercial, Reel; Linear Technology Part Number: LTC6084; Manufacturer: Linear Technology; PartNumber: LTC6084CMS8#TR; Channels (#): 2; GBW (MHz) Typical: 1.5; Is (mA) Typical: 0.11; SR (V/us) Typical: 0.5; Vos (mV) Typical: 0.3; Vs Max (V): 5.5; Vs Min (V): 2.5; DatasheetVersion: Rev. A; PackageReference: LT-MS8; PackageDescription: 8-Pin Plastic MSOP, Body 3 x 3 mm, Pitch 0.65 mm; Packing: Reel; Type: VFB; Mounting Technology: Surface Mount; ComponentLink1Description: Manufacturer URL; ComponentLink1URL: http://www.linear.com/; ComponentLink2Description: Datasheet; ComponentLink2URL: http://cds.linear.com/docs/en/datasheet/60845fa.pdf; ComponentLink3Description: Package Specification; ComponentLink3URL: http://cds.linear.com/docs/en/packaging/MSOP_8_05-08-1660.pdf
footprint LT-MS8_N (SOP, 8-Leads, Body 3x3mm, Pitch 0.65mm, IPC Medium Density)
footprint LT-MS8_L (SOP, 8-Leads, Body 3x3mm, Pitch 0.65mm, IPC High Density)
footprint LT-MS8_M (SOP, 8-Leads, Body 3x3mm, Pitch 0.65mm, IPC Low Density)
pins on every part: 4 V- (power) "Negative Supply.", 8 V+ (power) "Positive Supply."
part A pins: 1 OUTA (out) "Amplifi er Output.", 2 -INA (in) "Inverting Input.", 3 +INA (in) "Noninverting Input."
part B pins: 5 +INB (in) "Noninverting Input.", 6 -INB (in) "Inverting Input.", 7 OUTB (out) "Amplifi er Output."

## LTC6084CMS8#TRPBF
designator U?
Dual Channel, Rail-to-Rail, CMOS Operational Amplifier, 1.5 MHz Typical GBW, 0.5 V/us Typical SR, 2.5 to 5.5 V, 8-Pin SOP (MS8), Commercial, Pb-Free, Reel; Linear Technology Part Number: LTC6084; Manufacturer: Linear Technology; PartNumber: LTC6084CMS8#TRPBF; Channels (#): 2; GBW (MHz) Typical: 1.5; Is (mA) Typical: 0.11; SR (V/us) Typical: 0.5; Vos (mV) Typical: 0.3; Vs Max (V): 5.5; Vs Min (V): 2.5; DatasheetVersion: Rev. A; PackageReference: LT-MS8; PackageDescription: 8-Pin Plastic MSOP, Body 3 x 3 mm, Pitch 0.65 mm; Supplier 1: Digi-Key; Supplier Part Number 1: LTC6084CMS8#TRPBF-ND; Packing: Reel; RoHS: Pb-Free; Type: VFB; Mounting Technology: Surface Mount; ComponentLink1Description: Manufacturer URL; ComponentLink1URL: http://www.linear.com/; ComponentLink2Description: Datasheet; ComponentLink2URL: http://cds.linear.com/docs/en/datasheet/60845fa.pdf; ComponentLink3Description: Package Specification; ComponentLink3URL: http://cds.linear.com/docs/en/packaging/MSOP_8_05-08-1660.pdf
footprint LT-MS8_N (SOP, 8-Leads, Body 3x3mm, Pitch 0.65mm, IPC Medium Density)
footprint LT-MS8_L (SOP, 8-Leads, Body 3x3mm, Pitch 0.65mm, IPC High Density)
footprint LT-MS8_M (SOP, 8-Leads, Body 3x3mm, Pitch 0.65mm, IPC Low Density)
pins on every part: 4 V- (power) "Negative Supply.", 8 V+ (power) "Positive Supply."
part A pins: 1 OUTA (out) "Amplifi er Output.", 2 -INA (in) "Inverting Input.", 3 +INA (in) "Noninverting Input."
part B pins: 5 +INB (in) "Noninverting Input.", 6 -INB (in) "Inverting Input.", 7 OUTB (out) "Amplifi er Output."

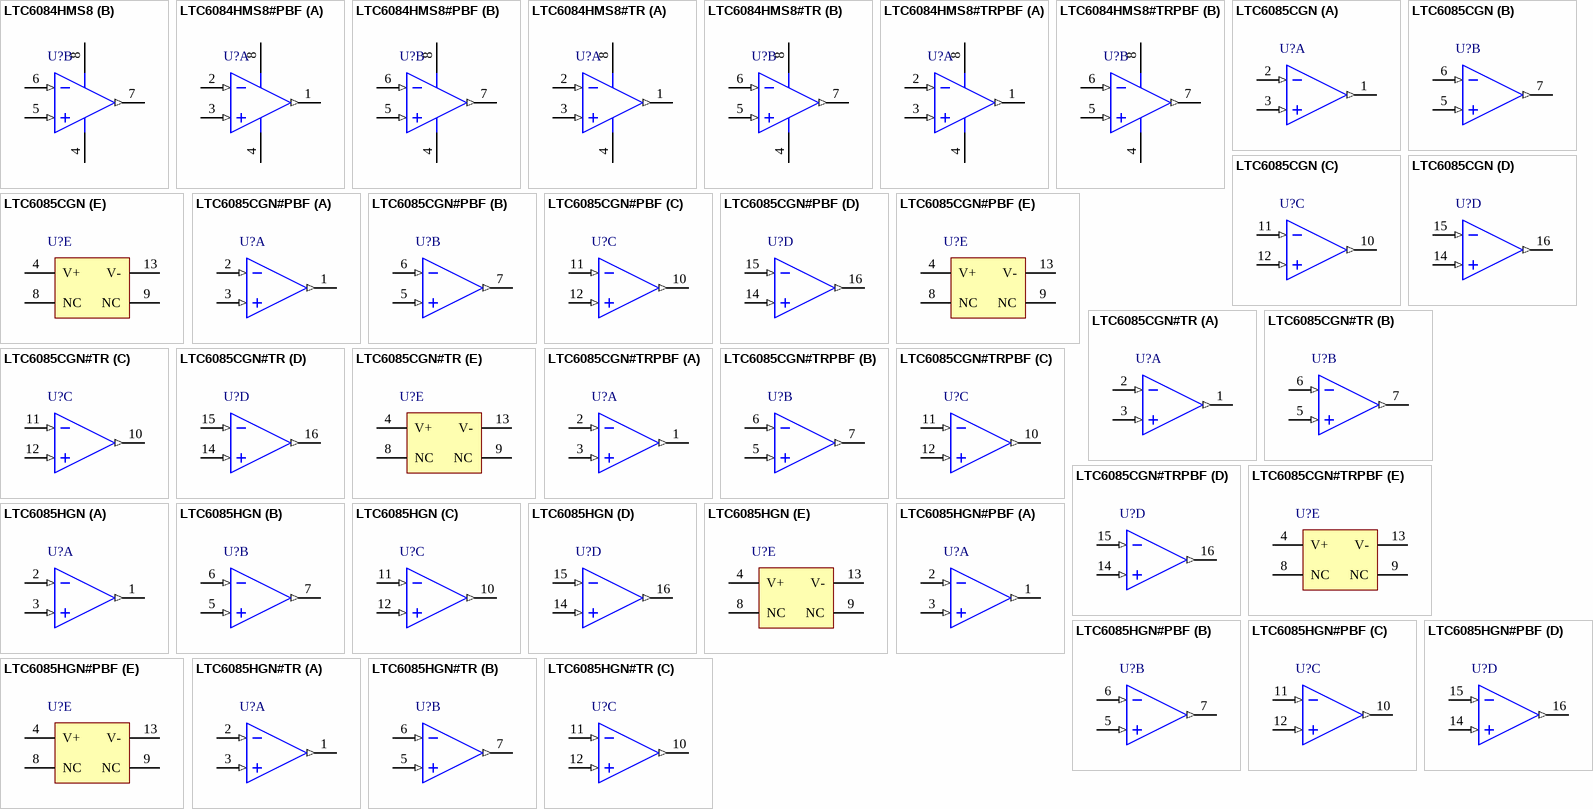
[diagram p54: symbols LTC6084HMS8 to LTC6085HGN#TR]

## LTC6084HMS8
designator U?
Dual Channel, Rail-to-Rail, CMOS Operational Amplifier, 1.5 MHz Typical GBW, 0.5 V/us Typical SR, 2.5 to 5.5 V, 8-Pin SOP (MS8), High Temperature / Automotive; Linear Technology Part Number: LTC6084; Manufacturer: Linear Technology; PartNumber: LTC6084HMS8; Channels (#): 2; GBW (MHz) Typical: 1.5; Is (mA) Typical: 0.11; SR (V/us) Typical: 0.5; Vos (mV) Typical: 0.3; Vs Max (V): 5.5; Vs Min (V): 2.5; DatasheetVersion: Rev. A; PackageReference: LT-MS8; PackageDescription: 8-Pin Plastic MSOP, Body 3 x 3 mm, Pitch 0.65 mm; Type: VFB; Mounting Technology: Surface Mount; ComponentLink1Description: Manufacturer URL; ComponentLink1URL: http://www.linear.com/; ComponentLink2Description: Datasheet; ComponentLink2URL: http://cds.linear.com/docs/en/datasheet/60845fa.pdf; ComponentLink3Description: Package Specification; ComponentLink3URL: http://cds.linear.com/docs/en/packaging/MSOP_8_05-08-1660.pdf
footprint LT-MS8_N (SOP, 8-Leads, Body 3x3mm, Pitch 0.65mm, IPC Medium Density)
footprint LT-MS8_L (SOP, 8-Leads, Body 3x3mm, Pitch 0.65mm, IPC High Density)
footprint LT-MS8_M (SOP, 8-Leads, Body 3x3mm, Pitch 0.65mm, IPC Low Density)
pins on every part: 4 V- (power) "Negative Supply.", 8 V+ (power) "Positive Supply."
part A pins: 1 OUTA (out) "Amplifi er Output.", 2 -INA (in) "Inverting Input.", 3 +INA (in) "Noninverting Input."
part B pins: 5 +INB (in) "Noninverting Input.", 6 -INB (in) "Inverting Input.", 7 OUTB (out) "Amplifi er Output."

## LTC6084HMS8#PBF
designator U?
Dual Channel, Rail-to-Rail, CMOS Operational Amplifier, 1.5 MHz Typical GBW, 0.5 V/us Typical SR, 2.5 to 5.5 V, 8-Pin SOP (MS8), High Temperature / Automotive, Pb-Free; Linear Technology Part Number: LTC6084; Manufacturer: Linear Technology; PartNumber: LTC6084HMS8#PBF; Channels (#): 2; GBW (MHz) Typical: 1.5; Is (mA) Typical: 0.11; SR (V/us) Typical: 0.5; Vos (mV) Typical: 0.3; Vs Max (V): 5.5; Vs Min (V): 2.5; DatasheetVersion: Rev. A; PackageReference: LT-MS8; PackageDescription: 8-Pin Plastic MSOP, Body 3 x 3 mm, Pitch 0.65 mm; Supplier 1: Digi-Key; Supplier Part Number 1: LTC6084HMS8#PBF-ND; Supplier 2: Farnell; Supplier Part Number 2: 2294743; Supplier 3: Newark; Supplier Part Number 3: 15N5444; RoHS: Pb-Free; Type: VFB; Mounting Technology: Surface Mount; ComponentLink1Description: Manufacturer URL; ComponentLink1URL: http://www.linear.com/; ComponentLink2Description: Datasheet; ComponentLink2URL: http://cds.linear.com/docs/en/datasheet/60845fa.pdf; ComponentLink3Description: Package Specification; ComponentLink3URL: http://cds.linear.com/docs/en/packaging/MSOP_8_05-08-1660.pdf
footprint LT-MS8_N (SOP, 8-Leads, Body 3x3mm, Pitch 0.65mm, IPC Medium Density)
footprint LT-MS8_L (SOP, 8-Leads, Body 3x3mm, Pitch 0.65mm, IPC High Density)
footprint LT-MS8_M (SOP, 8-Leads, Body 3x3mm, Pitch 0.65mm, IPC Low Density)
pins on every part: 4 V- (power) "Negative Supply.", 8 V+ (power) "Positive Supply."
part A pins: 1 OUTA (out) "Amplifi er Output.", 2 -INA (in) "Inverting Input.", 3 +INA (in) "Noninverting Input."
part B pins: 5 +INB (in) "Noninverting Input.", 6 -INB (in) "Inverting Input.", 7 OUTB (out) "Amplifi er Output."

## LTC6084HMS8#TR
designator U?
Dual Channel, Rail-to-Rail, CMOS Operational Amplifier, 1.5 MHz Typical GBW, 0.5 V/us Typical SR, 2.5 to 5.5 V, 8-Pin SOP (MS8), High Temperature / Automotive, Reel; Linear Technology Part Number: LTC6084; Manufacturer: Linear Technology; PartNumber: LTC6084HMS8#TR; Channels (#): 2; GBW (MHz) Typical: 1.5; Is (mA) Typical: 0.11; SR (V/us) Typical: 0.5; Vos (mV) Typical: 0.3; Vs Max (V): 5.5; Vs Min (V): 2.5; DatasheetVersion: Rev. A; PackageReference: LT-MS8; PackageDescription: 8-Pin Plastic MSOP, Body 3 x 3 mm, Pitch 0.65 mm; Packing: Reel; Type: VFB; Mounting Technology: Surface Mount; ComponentLink1Description: Manufacturer URL; ComponentLink1URL: http://www.linear.com/; ComponentLink2Description: Datasheet; ComponentLink2URL: http://cds.linear.com/docs/en/datasheet/60845fa.pdf; ComponentLink3Description: Package Specification; ComponentLink3URL: http://cds.linear.com/docs/en/packaging/MSOP_8_05-08-1660.pdf
footprint LT-MS8_N (SOP, 8-Leads, Body 3x3mm, Pitch 0.65mm, IPC Medium Density)
footprint LT-MS8_L (SOP, 8-Leads, Body 3x3mm, Pitch 0.65mm, IPC High Density)
footprint LT-MS8_M (SOP, 8-Leads, Body 3x3mm, Pitch 0.65mm, IPC Low Density)
pins on every part: 4 V- (power) "Negative Supply.", 8 V+ (power) "Positive Supply."
part A pins: 1 OUTA (out) "Amplifi er Output.", 2 -INA (in) "Inverting Input.", 3 +INA (in) "Noninverting Input."
part B pins: 5 +INB (in) "Noninverting Input.", 6 -INB (in) "Inverting Input.", 7 OUTB (out) "Amplifi er Output."

## LTC6084HMS8#TRPBF
designator U?
Dual Channel, Rail-to-Rail, CMOS Operational Amplifier, 1.5 MHz Typical GBW, 0.5 V/us Typical SR, 2.5 to 5.5 V, 8-Pin SOP (MS8), High Temperature / Automotive, Pb-Free, Reel; Linear Technology Part Number: LTC6084; Manufacturer: Linear Technology; PartNumber: LTC6084HMS8#TRPBF; Channels (#): 2; GBW (MHz) Typical: 1.5; Is (mA) Typical: 0.11; SR (V/us) Typical: 0.5; Vos (mV) Typical: 0.3; Vs Max (V): 5.5; Vs Min (V): 2.5; DatasheetVersion: Rev. A; PackageReference: LT-MS8; PackageDescription: 8-Pin Plastic MSOP, Body 3 x 3 mm, Pitch 0.65 mm; Supplier 1: Digi-Key; Supplier Part Number 1: LTC6084HMS8#TRPBF-ND; Packing: Reel; RoHS: Pb-Free; Type: VFB; Mounting Technology: Surface Mount; ComponentLink1Description: Manufacturer URL; ComponentLink1URL: http://www.linear.com/; ComponentLink2Description: Datasheet; ComponentLink2URL: http://cds.linear.com/docs/en/datasheet/60845fa.pdf; ComponentLink3Description: Package Specification; ComponentLink3URL: http://cds.linear.com/docs/en/packaging/MSOP_8_05-08-1660.pdf
footprint LT-MS8_N (SOP, 8-Leads, Body 3x3mm, Pitch 0.65mm, IPC Medium Density)
footprint LT-MS8_L (SOP, 8-Leads, Body 3x3mm, Pitch 0.65mm, IPC High Density)
footprint LT-MS8_M (SOP, 8-Leads, Body 3x3mm, Pitch 0.65mm, IPC Low Density)
pins on every part: 4 V- (power) "Negative Supply.", 8 V+ (power) "Positive Supply."
part A pins: 1 OUTA (out) "Amplifi er Output.", 2 -INA (in) "Inverting Input.", 3 +INA (in) "Noninverting Input."
part B pins: 5 +INB (in) "Noninverting Input.", 6 -INB (in) "Inverting Input.", 7 OUTB (out) "Amplifi er Output."

## LTC6085CGN
designator U?
Quad Channel, Rail-to-Rail, CMOS Amplifier, 1.5 MHz Typical GBW, 0.5 V/us Typical SR, 2.5 to 5.5 V, 16-Pin SOP (GN-16), Commercial; Linear Technology Part Number: LTC6085; Manufacturer: Linear Technology; PartNumber: LTC6085CGN; Channels (#): 4; GBW (MHz) Typical: 1.5; Is (mA) Typical: 0.11; SR (V/us) Typical: 0.5; Vos (mV) Typical: 0.3; Vs Max (V): 5.5; Vs Min (V): 2.5; DatasheetVersion: Rev. A; PackageVersion: Rev B; PackageReference: LT-GN-16; PackageDescription: 16-Lead Plastic SSOP, Body 4.9 x 3.9 mm, Pitch 0.635 mm; Type: VFB; Mounting Technology: Surface Mount; ComponentLink1Description: Manufacturer URL; ComponentLink1URL: http://www.linear.com/; ComponentLink2Description: Datasheet; ComponentLink2URL: http://cds.linear.com/docs/en/datasheet/60845fa.pdf; ComponentLink3Description: Package Specification; ComponentLink3URL: http://cds.linear.com/docs/en/packaging/05081641_B_GN16.pdf
footprint LT-GN-16_N (SOP, 16-Leads, Body 4.9x3.9mm, Pitch 0.635mm, IPC Medium Density)
footprint LT-GN-16_L (SOP, 16-Leads, Body 4.9x3.9mm, Pitch 0.635mm, IPC High Density)
footprint LT-GN-16_M (SOP, 16-Leads, Body 4.9x3.9mm, Pitch 0.635mm, IPC Low Density)
part A pins: 1 OUT A (out), 2 IN- A (in), 3 IN+ A (in)
part B pins: 5 IN+ B (in), 6 IN- B (in), 7 OUT B (out)
part C pins: 10 OUT C (out), 11 IN- C (in), 12 IN+ C (in)
part D pins: 14 IN+ D (in), 15 IN- D (in), 16 OUT D (out)
part E pins: 4 V+ (power), 8 NC, 9 NC, 13 V- (power)

## LTC6085CGN#PBF
designator U?
Quad Channel, Rail-to-Rail, CMOS Amplifier, 1.5 MHz Typical GBW, 0.5 V/us Typical SR, 2.5 to 5.5 V, 16-Pin SOP (GN-16), Commercial, Pb-Free; Linear Technology Part Number: LTC6085; Manufacturer: Linear Technology; PartNumber: LTC6085CGN#PBF; Channels (#): 4; GBW (MHz) Typical: 1.5; Is (mA) Typical: 0.11; SR (V/us) Typical: 0.5; Vos (mV) Typical: 0.3; Vs Max (V): 5.5; Vs Min (V): 2.5; DatasheetVersion: Rev. A; PackageVersion: Rev B; PackageReference: LT-GN-16; PackageDescription: 16-Lead Plastic SSOP, Body 4.9 x 3.9 mm, Pitch 0.635 mm; Supplier 1: Digi-Key; Supplier Part Number 1: LTC6085CGN#PBF-ND; Supplier 2: Newark; Supplier Part Number 2: 15N5452; RoHS: Pb-Free; Type: VFB; Mounting Technology: Surface Mount; ComponentLink1Description: Manufacturer URL; ComponentLink1URL: http://www.linear.com/; ComponentLink2Description: Datasheet; ComponentLink2URL: http://cds.linear.com/docs/en/datasheet/60845fa.pdf; ComponentLink3Description: Package Specification; ComponentLink3URL: http://cds.linear.com/docs/en/packaging/05081641_B_GN16.pdf
footprint LT-GN-16_N (SOP, 16-Leads, Body 4.9x3.9mm, Pitch 0.635mm, IPC Medium Density)
footprint LT-GN-16_L (SOP, 16-Leads, Body 4.9x3.9mm, Pitch 0.635mm, IPC High Density)
footprint LT-GN-16_M (SOP, 16-Leads, Body 4.9x3.9mm, Pitch 0.635mm, IPC Low Density)
part A pins: 1 OUT A (out), 2 IN- A (in), 3 IN+ A (in)
part B pins: 5 IN+ B (in), 6 IN- B (in), 7 OUT B (out)
part C pins: 10 OUT C (out), 11 IN- C (in), 12 IN+ C (in)
part D pins: 14 IN+ D (in), 15 IN- D (in), 16 OUT D (out)
part E pins: 4 V+ (power), 8 NC, 9 NC, 13 V- (power)

## LTC6085CGN#TR
designator U?
Quad Channel, Rail-to-Rail, CMOS Amplifier, 1.5 MHz Typical GBW, 0.5 V/us Typical SR, 2.5 to 5.5 V, 16-Pin SOP (GN-16), Commercial, Reel; Linear Technology Part Number: LTC6085; Manufacturer: Linear Technology; PartNumber: LTC6085CGN#TR; Channels (#): 4; GBW (MHz) Typical: 1.5; Is (mA) Typical: 0.11; SR (V/us) Typical: 0.5; Vos (mV) Typical: 0.3; Vs Max (V): 5.5; Vs Min (V): 2.5; DatasheetVersion: Rev. A; PackageVersion: Rev B; PackageReference: LT-GN-16; PackageDescription: 16-Lead Plastic SSOP, Body 4.9 x 3.9 mm, Pitch 0.635 mm; Packing: Reel; Type: VFB; Mounting Technology: Surface Mount; ComponentLink1Description: Manufacturer URL; ComponentLink1URL: http://www.linear.com/; ComponentLink2Description: Datasheet; ComponentLink2URL: http://cds.linear.com/docs/en/datasheet/60845fa.pdf; ComponentLink3Description: Package Specification; ComponentLink3URL: http://cds.linear.com/docs/en/packaging/05081641_B_GN16.pdf
footprint LT-GN-16_N (SOP, 16-Leads, Body 4.9x3.9mm, Pitch 0.635mm, IPC Medium Density)
footprint LT-GN-16_L (SOP, 16-Leads, Body 4.9x3.9mm, Pitch 0.635mm, IPC High Density)
footprint LT-GN-16_M (SOP, 16-Leads, Body 4.9x3.9mm, Pitch 0.635mm, IPC Low Density)
part A pins: 1 OUT A (out), 2 IN- A (in), 3 IN+ A (in)
part B pins: 5 IN+ B (in), 6 IN- B (in), 7 OUT B (out)
part C pins: 10 OUT C (out), 11 IN- C (in), 12 IN+ C (in)
part D pins: 14 IN+ D (in), 15 IN- D (in), 16 OUT D (out)
part E pins: 4 V+ (power), 8 NC, 9 NC, 13 V- (power)

## LTC6085CGN#TRPBF
designator U?
Quad Channel, Rail-to-Rail, CMOS Amplifier, 1.5 MHz Typical GBW, 0.5 V/us Typical SR, 2.5 to 5.5 V, 16-Pin SOP (GN-16), Commercial, Pb-Free, Reel; Linear Technology Part Number: LTC6085; Manufacturer: Linear Technology; PartNumber: LTC6085CGN#TRPBF; Channels (#): 4; GBW (MHz) Typical: 1.5; Is (mA) Typical: 0.11; SR (V/us) Typical: 0.5; Vos (mV) Typical: 0.3; Vs Max (V): 5.5; Vs Min (V): 2.5; DatasheetVersion: Rev. A; PackageVersion: Rev B; PackageReference: LT-GN-16; PackageDescription: 16-Lead Plastic SSOP, Body 4.9 x 3.9 mm, Pitch 0.635 mm; Supplier 1: Digi-Key; Supplier Part Number 1: LTC6085CGN#TRPBF-ND; Packing: Reel; RoHS: Pb-Free; Type: VFB; Mounting Technology: Surface Mount; ComponentLink1Description: Manufacturer URL; ComponentLink1URL: http://www.linear.com/; ComponentLink2Description: Datasheet; ComponentLink2URL: http://cds.linear.com/docs/en/datasheet/60845fa.pdf; ComponentLink3Description: Package Specification; ComponentLink3URL: http://cds.linear.com/docs/en/packaging/05081641_B_GN16.pdf
footprint LT-GN-16_N (SOP, 16-Leads, Body 4.9x3.9mm, Pitch 0.635mm, IPC Medium Density)
footprint LT-GN-16_L (SOP, 16-Leads, Body 4.9x3.9mm, Pitch 0.635mm, IPC High Density)
footprint LT-GN-16_M (SOP, 16-Leads, Body 4.9x3.9mm, Pitch 0.635mm, IPC Low Density)
part A pins: 1 OUT A (out), 2 IN- A (in), 3 IN+ A (in)
part B pins: 5 IN+ B (in), 6 IN- B (in), 7 OUT B (out)
part C pins: 10 OUT C (out), 11 IN- C (in), 12 IN+ C (in)
part D pins: 14 IN+ D (in), 15 IN- D (in), 16 OUT D (out)
part E pins: 4 V+ (power), 8 NC, 9 NC, 13 V- (power)

## LTC6085HGN
designator U?
Quad Channel, Rail-to-Rail, CMOS Operational Amplifier, 1.5 MHz Typical GBW, 0.5 V/us Typical SR, 2.5 to 5.5 V, 16-Pin SOP (GN-16), High Temperature / Automotive; Linear Technology Part Number: LTC6085; Manufacturer: Linear Technology; PartNumber: LTC6085HGN; Channels (#): 4; GBW (MHz) Typical: 1.5; Is (mA) Typical: 0.11; SR (V/us) Typical: 0.5; Vos (mV) Typical: 0.3; Vs Max (V): 5.5; Vs Min (V): 2.5; DatasheetVersion: Rev. A; PackageVersion: Rev B; PackageReference: LT-GN-16; PackageDescription: 16-Lead Plastic SSOP, Body 4.9 x 3.9 mm, Pitch 0.635 mm; Type: VFB; Mounting Technology: Surface Mount; ComponentLink1Description: Manufacturer URL; ComponentLink1URL: http://www.linear.com/; ComponentLink2Description: Datasheet; ComponentLink2URL: http://cds.linear.com/docs/en/datasheet/60845fa.pdf; ComponentLink3Description: Package Specification; ComponentLink3URL: http://cds.linear.com/docs/en/packaging/05081641_B_GN16.pdf
footprint LT-GN-16_N (SOP, 16-Leads, Body 4.9x3.9mm, Pitch 0.635mm, IPC Medium Density)
footprint LT-GN-16_L (SOP, 16-Leads, Body 4.9x3.9mm, Pitch 0.635mm, IPC High Density)
footprint LT-GN-16_M (SOP, 16-Leads, Body 4.9x3.9mm, Pitch 0.635mm, IPC Low Density)
part A pins: 1 OUT A (out), 2 IN- A (in), 3 IN+ A (in)
part B pins: 5 IN+ B (in), 6 IN- B (in), 7 OUT B (out)
part C pins: 10 OUT C (out), 11 IN- C (in), 12 IN+ C (in)
part D pins: 14 IN+ D (in), 15 IN- D (in), 16 OUT D (out)
part E pins: 4 V+ (power), 8 NC, 9 NC, 13 V- (power)

## LTC6085HGN#PBF
designator U?
Quad Channel, Rail-to-Rail, CMOS Operational Amplifier, 1.5 MHz Typical GBW, 0.5 V/us Typical SR, 2.5 to 5.5 V, 16-Pin SOP (GN-16), High Temperature / Automotive, Pb-Free; Linear Technology Part Number: LTC6085; Manufacturer: Linear Technology; PartNumber: LTC6085HGN#PBF; Channels (#): 4; GBW (MHz) Typical: 1.5; Is (mA) Typical: 0.11; SR (V/us) Typical: 0.5; Vos (mV) Typical: 0.3; Vs Max (V): 5.5; Vs Min (V): 2.5; DatasheetVersion: Rev. A; PackageVersion: Rev B; PackageReference: LT-GN-16; PackageDescription: 16-Lead Plastic SSOP, Body 4.9 x 3.9 mm, Pitch 0.635 mm; Supplier 1: Digi-Key; Supplier Part Number 1: LTC6085HGN#PBF-ND; RoHS: Pb-Free; Type: VFB; Mounting Technology: Surface Mount; ComponentLink1Description: Manufacturer URL; ComponentLink1URL: http://www.linear.com/; ComponentLink2Description: Datasheet; ComponentLink2URL: http://cds.linear.com/docs/en/datasheet/60845fa.pdf; ComponentLink3Description: Package Specification; ComponentLink3URL: http://cds.linear.com/docs/en/packaging/05081641_B_GN16.pdf
footprint LT-GN-16_N (SOP, 16-Leads, Body 4.9x3.9mm, Pitch 0.635mm, IPC Medium Density)
footprint LT-GN-16_L (SOP, 16-Leads, Body 4.9x3.9mm, Pitch 0.635mm, IPC High Density)
footprint LT-GN-16_M (SOP, 16-Leads, Body 4.9x3.9mm, Pitch 0.635mm, IPC Low Density)
part A pins: 1 OUT A (out), 2 IN- A (in), 3 IN+ A (in)
part B pins: 5 IN+ B (in), 6 IN- B (in), 7 OUT B (out)
part C pins: 10 OUT C (out), 11 IN- C (in), 12 IN+ C (in)
part D pins: 14 IN+ D (in), 15 IN- D (in), 16 OUT D (out)
part E pins: 4 V+ (power), 8 NC, 9 NC, 13 V- (power)

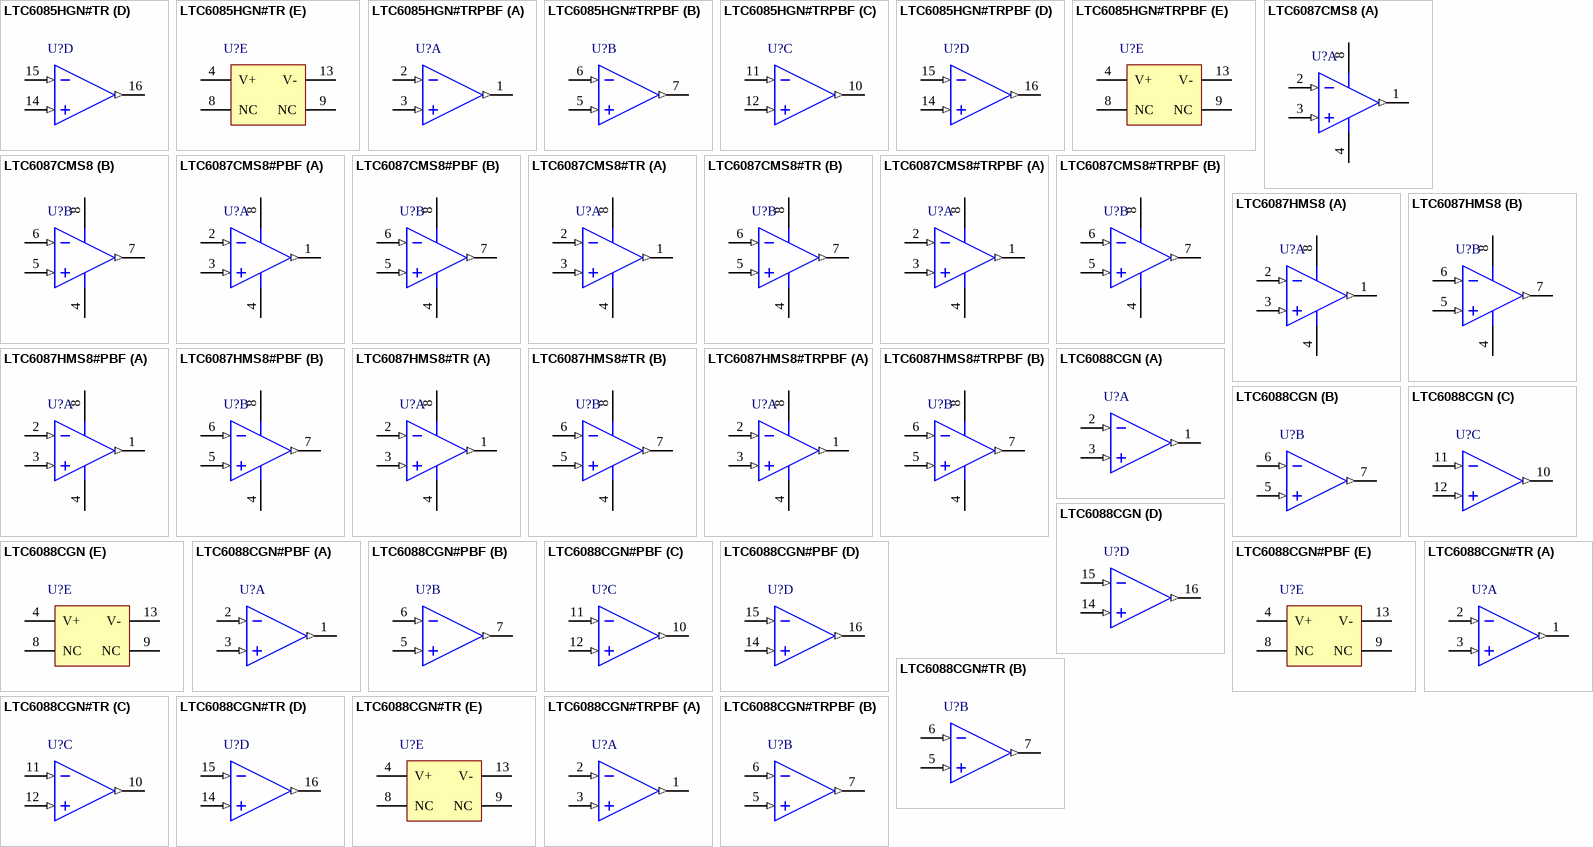
[diagram p55: symbols LTC6085HGN#TR to LTC6088CGN#TRPBF]